# Altium schematic symbol library SCH - MOSFETS - EPC2302.Schlib: 1 symbol
Pins are listed as number, name and electrical type; pins without a type are passive.

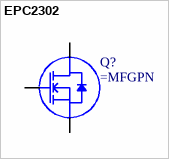
[diagram p0: symbol EPC2302]

## EPC2302
designator Q?
100V 101A 1.9mE
pins: 1 G, 2 S, 3 D, 4 S, 5 D, 6 S, 7 D